# EAGLE library part BM10B(0.8)-20DP-0.4V(51) (library con-hirose-bm10)
CONN HDR 20POS 0.4MM SMD
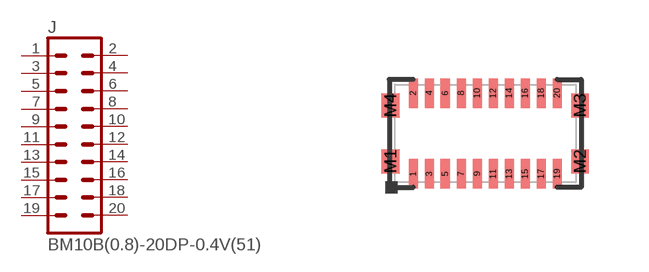
[diagram p4: symbol with the pads of BM10B(0.8)-20DP-0.4V(51); footprint BM10B(0.8)-20DP-0.4V(51)]

Designator prefix J

## BM10B(0.8)-20DP-0.4V(51) (DIGIKEY: H11813CT-ND)  [BM10B(0.8)-20DP-0.4V(51)]
1  1  pas
2  2  pas
3  3  pas
4  4  pas
5  5  pas
6  6  pas
7  7  pas
8  8  pas
9  9  pas
10  10  pas
11  11  pas
12  12  pas
13  13  pas
14  14  pas
15  15  pas
16  16  pas
17  17  pas
18  18  pas
19  19  pas
20  20  pas

## Footprint BM10B(0.8)-20DP-0.4V(51) (pad centres in mm)
smd 0.23 x 0.74: 1 -1.8,-1.01; 2 -1.8,1.01; 3 -1.4,-1.01; 4 -1.4,1.01; 5 -1,-1.01; 6 -1,1.01; 7 -0.6,-1.01; 8 -0.6,1.01; 9 -0.2,-1.01; 10 -0.2,1.01; 11 0.2,-1.01; 12 0.2,1.01; 13 0.6,-1.01; 14 0.6,1.01; 15 1,-1.01; 16 1,1.01; 17 1.4,-1.01; 18 1.4,1.01; 19 1.8,-1.01; 20 1.8,1.01
smd 0.44 x 0.59: M1 -2.37,-0.7; M2 2.37,-0.7; M3 2.37,0.7; M4 -2.37,0.7